# Altium footprint library PcbLib1.PcbLib: 1 footprints
Each footprint in its own frame and in the unit in brackets; x right, y up, seen from the top. Pads: shape width x height; smd on the part's side, far side on the other; paste and mask are expansions set on the pad; w line width, h text height; cw(c..) or ccw(c..) is an arc to the next point about the centre after c.
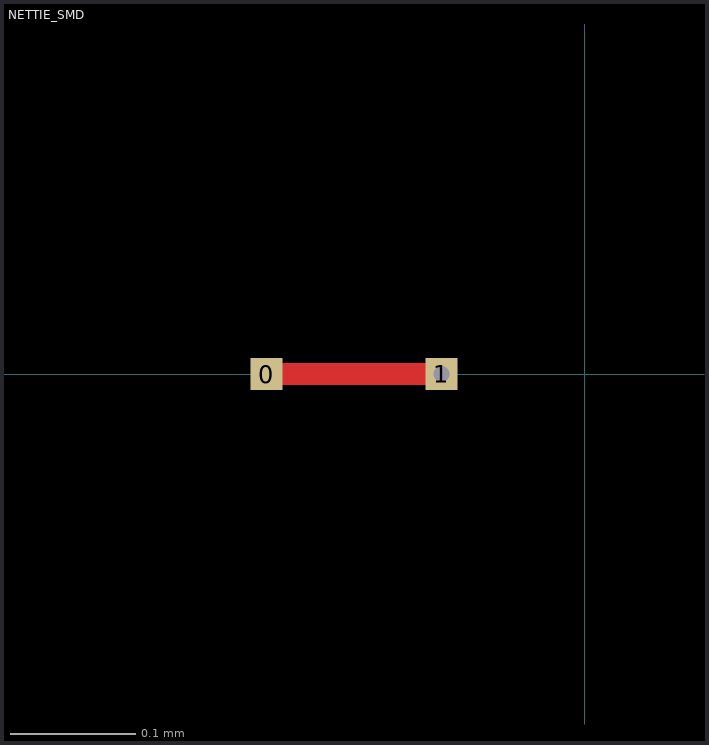
[diagram p0: the footprint, top view; thin cyan lines are the x and y axes]

## NETTIE_SMD [mil]
pads (2):
  rect 1x1 smd mask-10: 0(-10,0)
  rect 1x1 hole 0.5 mask-10: 1(-4.5,0)
Top Layer:
  rectangle: -9.75,-0.35 -4.75,0.35